# Altium footprint library DY2_DC5.PcbLib: 1 footprints
Each footprint in its own frame and in the unit in brackets; x right, y up, seen from the top. Pads: shape width x height; smd on the part's side, far side on the other; paste and mask are expansions set on the pad; w line width, h text height; cw(c..) or ccw(c..) is an arc to the next point about the centre after c.
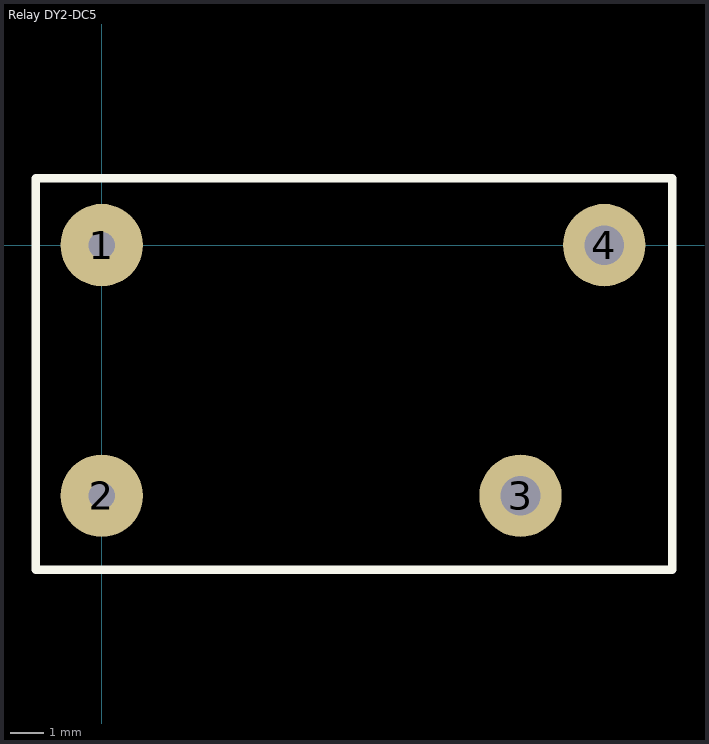
[diagram p0: the footprint, top view; thin cyan lines are the x and y axes]

## Relay DY2-DC5 [mm]
pads (4):
  round 2.5 hole 0.8: 1(0,0) 2(0,-7.6)
  round 2.5 hole 1.2: 3(12.7,-7.6) 4(15.24,0)
Top Overlay:
  lines w0.254: -2,-9.85 -2,2.032 17.3,2.032 17.3,-9.85 -2,-9.85